# EAGLE library part TXB0108 (library magzor)
8 bit bidirectional level shifter TI TXB0108
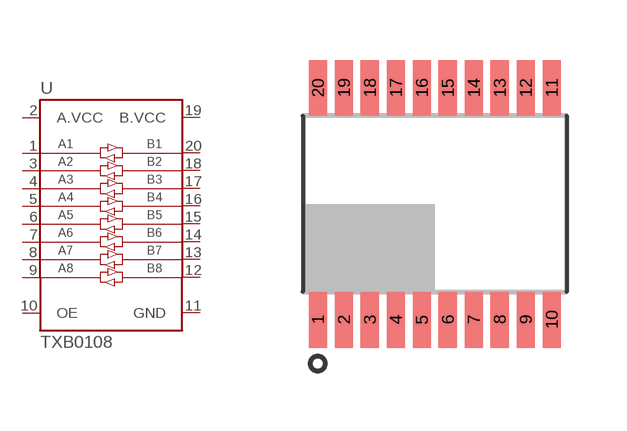
[diagram p12: symbol with the pads of TSSOP20; footprint TSSOP20]

Designator prefix U

## TXB0108PW  [TSSOP20]
1  A1
2  A.VCC
3  A2
4  A3
5  A4
6  A5
7  A6
8  A7
9  A8
10  OE
11  GND
12  B8
13  B7
14  B6
15  B5
16  B4
17  B3
18  B2
19  B.VCC
20  B1

## Footprint TSSOP20 (pad centres in mm)
aka SOT360
smd 0.45 x 1.4: 1 -2.925,-2.9; 2 -2.275,-2.9; 3 -1.625,-2.9; 4 -0.975,-2.9; 5 -0.325,-2.9; 6 0.325,-2.9; 7 0.975,-2.9; 8 1.625,-2.9; 9 2.275,-2.9; 10 2.925,-2.9; 11 2.925,2.9; 12 2.275,2.9; 13 1.625,2.9; 14 0.975,2.9; 15 0.325,2.9; 16 -0.325,2.9; 17 -0.975,2.9; 18 -1.625,2.9; 19 -2.275,2.9; 20 -2.925,2.9